# Altium schematic symbol library schematic_library.SchLib: 199 symbols (part 1 of 2)
Pins are listed as number, name and electrical type; pins without a type are passive.

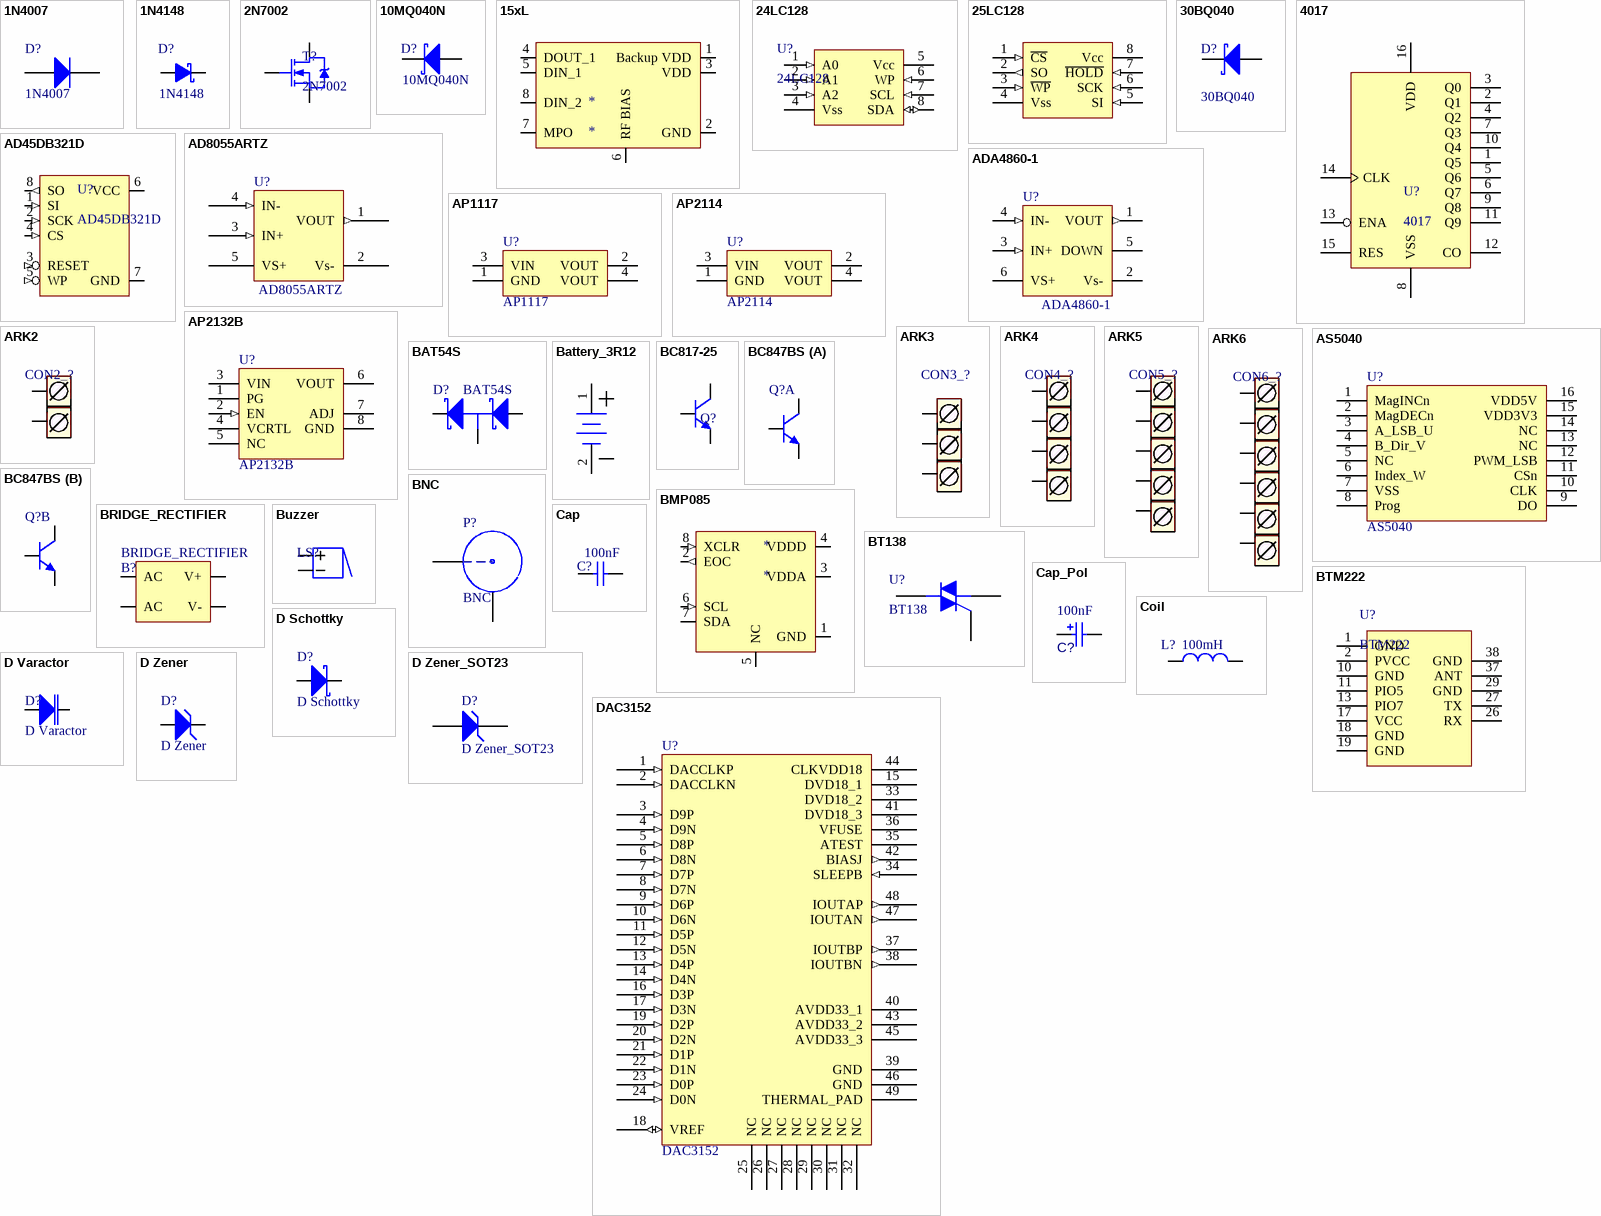
[diagram p0: symbols 1N4007 to DAC3152]

## 1N4007
designator D?
1.0A RECTIFIER
footprint Diode_THT (THT of 15mm spread diode)
pins: 1 A, 2 K

## 1N4148
designator D?
Small Signal Fast Switching Diodes
footprint minimelf
pins: 1 A, 2 K

## 2N7002
designator T?
N-Channel Enhancement Mode Field Effect Transistor
footprint SOT23
pins: 1 G, 2 S, 3 D

## 10MQ040N
designator D?
Schottky Rectifier
footprint SMA (Molded Diode, 2-Leads, Body 4,3x2,7mm, IPC Medium Density)
pins: 1 A, 2 K

## 15xL
designator *
pins: 1 Backup VDD, 2 GND, 3 VDD, 4 DOUT_1, 5 DIN_1, 6 RF BIAS, 7 MPO, 8 DIN_2

## 24LC128
designator U?
128K I  2  C™CMOS Serial EEPROM
footprint SOIC8
pins: 1 A0 (in), 2 A1 (in), 3 A2 (in), 4 Vss (power), 5 Vcc (power), 6 WP (in), 7 SCL (in), 8 SDA (io)

## 25LC128
designator U?  (value not drawn)
128K SPI Bus Serial EEPROM
footprint SOIC8
pins: 1 ~{CS} (in), 2 SO (out), 3 ~{WP} (in), 4 Vss (power), 5 SI (in), 6 SCK (in), 7 ~{HOLD} (in), 8 Vcc (power)

## 30BQ040
designator D?
Schottky Rectifier; Published: 8-Jun-2000; LatestRevisionDate: 17-Jul-2002; LatestRevisionNote: Re-released for DXP Platform.; DatasheetDocument: PD-2.439; PackageReference: SMC; Publisher: Altium Limited; Code_JEDEC: DO-214-AB; ComponentLink1Description: Manufacturer Link; ComponentLink1URL: http://www.irf.com/; ComponentLink2Description: Datasheet; ComponentLink2URL: http://www.irf.com/product-info/datasheets/data/30bq040.pdf
footprint SMC (DO-214-AB/SMC; 2 C-Bend Leads; Body 7.9 x 5.9 mm, inc. leads (LxW))
pins: 1 A, 2 K

## 4017
designator U?
5-stage Johnson counter
footprint DIP16
pins: 1 Q5, 2 Q1, 3 Q0, 4 Q2, 5 Q6, 6 Q7, 7 Q3, 8 VSS, 9 Q8, 10 Q4, 11 Q9, 12 CO, 13 ENA, 14 CLK, 15 RES, 16 VDD

## AD45DB321D
designator U?
footprint SOIC8S2
pins: 1 SI (in), 2 SCK (in), 3 RESET (in), 4 CS (in), 5 WP (in), 6 VCC (power), 7 GND (power), 8 SO (out)

## AD8055ARTZ
designator U?
Low Cost, 300MHz Voltage Feedback Amplifier
footprint SOT23-5_N (SOT23, 5-Leads, Body 2.9x1.6mm, Pitch 0.95mm, Lead Span 2.8mm, IPC Medium Density)
pins: 1 VOUT (out), 2 Vs- (power), 3 IN+ (in), 4 IN- (in), 5 VS+ (power)

## ADA4860-1
designator U?
The ADA4860-1 is a low cost, high speed, current feedback op  amp that provides excellent overall performance. The 800 MHz,  −3 dB bandwidth, and 790 V/μs slew rate make this amplifier  well suited for many high speed applications.; Created by: Piotr Błachnio
footprint SOT23-6 (6-Lead SOT-23)
pins: 1 VOUT (out), 2 Vs- (power), 3 IN+ (in), 4 IN- (in), 5 DOWN, 6 VS+ (power)

## AP1117
designator U?
AP1117 is a low dropout positive adjustable or fixed-mode regulator  with 1A output current capability.; Created by: Piotr Błachnio
footprint SOT223
pins: 1 GND (power), 2 VOUT (power), 3 VIN (power), 4 VOUT (power)

## AP2114
designator U?
1A; 1.2V, 1.5V, 1.8V, 2.5V  and 3.3V; LOW NOISE CMOS LDO REGULATOR WITH ENABLE
footprint SOT223
pins: 1 GND (power), 2 VOUT (power), 3 VIN (power), 4 VOUT (power)

## AP2132B
designator U?
AP2132B 1.2V; 1.5V; 1.8V; 2.5V; FIXED OR ADJUSTABLE 2A CMOS LDO REGULATOR
footprint PSOP8 (SOP8, PSOP8)
pins: 1 PG, 2 EN (in), 3 VIN (power), 4 VCRTL (power), 5 NC, 6 VOUT (power), 7 ADJ, 8 GND (power)

## ARK2
designator CON2_?  (value not drawn)
Złącze śrubowe 2 piny
footprint ARK2
pins: 1, 2

## ARK3
designator CON3_?  (value not drawn)
Złącze śrubowe 3 piny
footprint ARK3
pins: 1, 2, 3

## ARK4
designator CON4_?  (value not drawn)
Złącze śrubowe 4 piny
footprint ARK4
pins: 1, 2, 3, 4

## ARK5
designator CON5_?  (value not drawn)
Złącze śrubowe 5 pinów
footprint ARK5
pins: 1, 2, 3, 4, 5

## ARK6
designator CON6_?  (value not drawn)
Złącze śrubowe 6 pinów
footprint ARK6
pins: 1, 2, 3, 4, 5, 6

## AS5040
designator U?
10Bit 360° Programmable Magnetic Rotary Encoder
footprint SSOP-16
pins: 1 MagINCn, 2 MagDECn, 3 A_LSB_U, 4 B_Dir_V, 5 NC, 6 Index_W, 7 VSS, 8 Prog, 9 DO, 10 CLK, 11 CSn, 12 PWM_LSB, 13 NC, 14 NC, 15 VDD3V3, 16 VDD5V

## BAT54S
designator D?
Schottky Barrier Double Diode; Published: 17-Sep-2003; LatestRevisionDate: 12-Dec-2006; LatestRevisionNote: IPC-7351 Footprint Added.; DatasheetVersion: 4-Mar-2002; PackageVersion: May-1999; PackageReference: SOT23; Publisher: Altium Limited; PackageDescription: 3-Pin SOT-23 Package 0.95 mm Pitch, 2.3 mm Lead Span; ComponentLink1Description: Manufacturer Link; ComponentLink1URL: http://www.semiconductors.philips.com/; ComponentLink2Description: Datasheet; ComponentLink2URL: http://www.semiconductors.philips.com/acrobat/datasheets/BAT54_SERIES_4.pdf
footprint SOT23_N
pins: 1 A, 2 K, 3 C

## Battery_3R12
designator BAT?, comment 3R12  (value not drawn)
3R12 Battery 4,5V with 2x2 Header
footprint Battery_3R12 (4,5V Battery model 3R12)
footprint ARK2
pins: 1 +, 2 -

## BC817-25
designator Q?  (value not drawn)
NPN General-purpose Transistor; Published: 17-Sep-2003; LatestRevisionDate: 12-Dec-2006; LatestRevisionNote: IPC-7351 Footprint Added.; DatasheetVersion: Jun-1999; PackageVersion: May-1999; PackageReference: SOT23; Publisher: Altium Limited; PackageDescription: 3-Pin SOT-23 Package 0.95 mm Pitch, 2.3 mm Lead Span; ComponentLink1Description: Manufacturer Link; ComponentLink1URL: http://www.semiconductors.philips.com/; ComponentLink2Description: Datasheet; ComponentLink2URL: http://www.semiconductors.philips.com/acrobat/datasheets/BC817_BC817W_BC337_5.pdf
footprint SOT23_N
pins: 1 B, 2 E, 3 C

## BC847BS
designator Q?  (value not drawn)
NPN General-purpose Transistor; Created by: Piotr Błachnio
footprint SOT-363
part A pins: 1 E, 2 B, 6 C
part B pins: 3 C, 4 E, 5 B

## BMP085
designator *
pins: 1 GND, 2 EOC (out), 3 VDDA, 4 VDDD, 5 NC, 6 SCL (in), 7 SDA (oc), 8 XCLR (in)

## BNC
designator P?
BNC 50 ohm, right angle; Created by: Piotr Błachnio
footprint BNC (10GHz, 50ohm, right angle bnc connector)
pins: 1, 2

## BRIDGE_RECTIFIER
designator B?
SINGLE-PHASE SILICON BRIDGE RECTIFIER
footprint DB-1 (SINGLE-PHASE SILICON BRIDGE RECTIFIER)
footprint MBS (MBS2 thru MBS10 Glass Passivated Bridge Rectifiers)
pins: 1 AC, 2 AC, 3 V+, 4 V-

## BT138
designator U?
BT138, 600V Triac
footprint TO-220AB (TO, Thru-Hole, Vertical, Heatsink Mounted; 3 In-Line Leads; Pitch 2.54 mm)
pins: 1 M1, 2 M2, 3 G

## BTM222
designator U?
Class1 BC04-ext Module
footprint BTM222 (Class1 BC04-ext Module)
pins: 1 GND (power), 2 PVCC (power), 10 GND (power), 11 PIO5 (power), 13 PIO7 (power), 17 VCC (power), 18 GND (power), 19 GND (power), 26 RX (power), 27 TX (power), 29 GND (power), 37 ANT (power), 38 GND (power)

## Buzzer
designator LS?  (value not drawn)
Magnetic Transducer Buzzer; Published: 24-Mar-1999; LatestRevisionDate: 17-Dec-2003; LatestRevisionNote: Schematic revised, PCB Footprint replaced.; DatasheetVersion: 17-Dec-2003; PackageReference: ABSM-1574; Publisher: Altium Limited; ComponentLink1Description: Manufacturer Link; ComponentLink1URL: http://www.megastar.com/linecard/buzzmode/index.php
footprint HCM1212X (Buzzer)
pins: 1, 2

## Cap
designator C?  value 100nF
Ceramic capacitor; Unit Price1: *; Unit Price2: *
footprint 0805_CAP
footprint CAP_THT_5.0 (Kondensator ceramiczny z rozstawem wyprowadzeń 5mm)
footprint 0603_CAP
footprint 1210_CAP
footprint 0402_CAP (CAP 0402)
footprint CAP_THT_2.5 (Kondensator ceramiczny z rozstawem wyprowadzeń 2.5mm)
pins: 1, 2

## Cap_Pol
designator C?, comment 100nF
Polar capacitor; Value: 100nF
footprint Con_SMD_4x5 (SMD electrolytic capacitor)
footprint Con_SMD_5x5.5 (SMD electrolytic capacitor)
footprint Con_SMD_6.3x5.5 (SMD electrolytical capacitor)
footprint Con_SMD_8x10_5 (Base 8,2mm height 10mm, 220uF, 35V AD6)
footprint Cap_THT_5x11
footprint Cap_THT_6x11
footprint Cap_THT_10x20
footprint B_CAP
footprint Cap_THT_5x7x2_5 (Cap_THT_5x11)
footprint CAPAE3333X55M (Aluminum Electrolytic Capacitor, Body 3,30x3,30x5,50mm)
footprint CAP_POL_3216-18 (Tantalum capacitor 3216 Case-A)
footprint SMA_tantal (Solid Tantalum Surface Mount Capacitors)
footprint SMB_tantal (Solid Tantalum Surface Mount Capacitors)
footprint SMC_tantal (Solid Tantalum Surface Mount Capacitors)
footprint SMD_tantal (Solid Tantalum Surface Mount Capacitors)
pins: 1, 2
2 alternate drawings of the same symbol

## Coil
designator L?, comment 100mH
Coil for ADC filtering; Value: 100mH
footprint THT_AXIAL (General THT AXIAL element)
footprint 0603_IND
footprint 0805_IND ((2012 metric))
footprint 1206_IND (3216(metric))
pins: 1, 2

## D Schottky
designator D?
Schottky Diode; Published: 8-Jun-2000; LatestRevisionDate: 17-Jul-2002; LatestRevisionNote: Re-released for DXP Platform.; PackageReference: SMB; Publisher: Altium Limited; PackageDescription: DO-214-AA/SMB; 2 C-Bend Leads; Body 5.3 x 3.6 mm, inc. leads (LxW); Code_JEDEC: DO-214-AA
footprint SMB (DO-214-AA/SMB; 2 C-Bend Leads; Body 5.3 x 3.6 mm, inc. leads (LxW))
signal-integrity model D Schottky
footprint SMA (Molded Diode, 2-Leads, Body 4,3x2,7mm, IPC Medium Density)
footprint SMC2 (SMC;)
footprint SMB 2 (SMB)
pins: 1 A, 2 K

## D Varactor
designator D?
Variable Capacitance Diode; Note: Pin 2 is not connected and not drawn.; Published: 8-Jun-2000; LatestRevisionDate: 29-May-2009; LatestRevisionNote: IPC-7351 Footprint Added.; DatasheetVersion: Jan-1998; PackageVersion: 1996; PackageReference: SOT23A; Publisher: Altium Limited; PackageDescription: 3-Pin SOT-23 Package 0.95 mm Pitch, 2.3 mm Lead Span - Reverse Pinning; ComponentLink1Description: Manufacturer Link; ComponentLink1URL: http://www.zetex.com/
footprint SOT23_N (SOT23, 3-Leads, Body 2.9x1.3mm, Pitch 0.95mm, Lead Span 2.3mm - Reverse Pinning, IPC Medium Density)
signal-integrity model D Varactor
pins: 1 K, 3 A

## D Zener
designator D?
Zener Diode; Published: 8-Jun-2000; LatestRevisionDate: 17-Jul-2002; LatestRevisionNote: Re-released for DXP Platform.; PackageReference: DIODE-0.7; Publisher: Altium Limited; PackageDescription: Diode, Thru-Hole; 2 Leads; 0.7 in Pin Spacing
footprint SMB (DO-214-AA/SMB; 2 C-Bend Leads; Body 5.3 x 3.6 mm, inc. leads (LxW))
footprint Zener_THT (THT of 15mm spread zener diode)
footprint SMB_DIODE (SMB)
pins: 1 A, 2 K

## D Zener_SOT23
designator D?
Zener Diode, SOT23; Published: 8-Jun-2000; LatestRevisionDate: 17-Jul-2002; LatestRevisionNote: Re-released for DXP Platform.; PackageReference: DIODE-0.7; Publisher: Altium Limited; PackageDescription: Diode, Thru-Hole; 2 Leads; 0.7 in Pin Spacing
signal-integrity model D Zener
footprint SOT23
pins: 1 A, 3 K

## DAC3152
designator U?
Dual-Channel, 10 Bit, 500-MSPS Digital to Analog Converter DAC
footprint VQFN48
pins: 1 DACCLKP (in), 2 DACCLKN (in), 3 D9P (in), 4 D9N (in), 5 D8P (in), 6 D8N (in), 7 D7P (in), 8 D7N (in), 9 D6P (in), 10 D6N (in), 11 D5P (in), 12 D5N (in), 13 D4P (in), 14 D4N (in), 15 DVD18_1 (power), 16 D3P (in), 17 D3N (in), 18 VREF (io), 19 D2P (in), 20 D2N (in), 21 D1P (in), 22 D1N (in), 23 D0P (in), 24 D0N (in), 25 NC, 26 NC, 27 NC, 28 NC, 29 NC, 30 NC, 31 NC, 32 NC, 33 DVD18_2 (power), 34 SLEEPB (in), 35 ATEST, 36 VFUSE, 37 IOUTBP (out), 38 IOUTBN (out), 39 GND (power), 40 AVDD33_1 (power), 41 DVD18_3 (power), 42 BIASJ (out), 43 AVDD33_2 (power), 44 CLKVDD18 (power), 45 AVDD33_3 (power), 46 GND (power), 47 IOUTAN (out), 48 IOUTAP (out), 49 THERMAL_PAD (power)

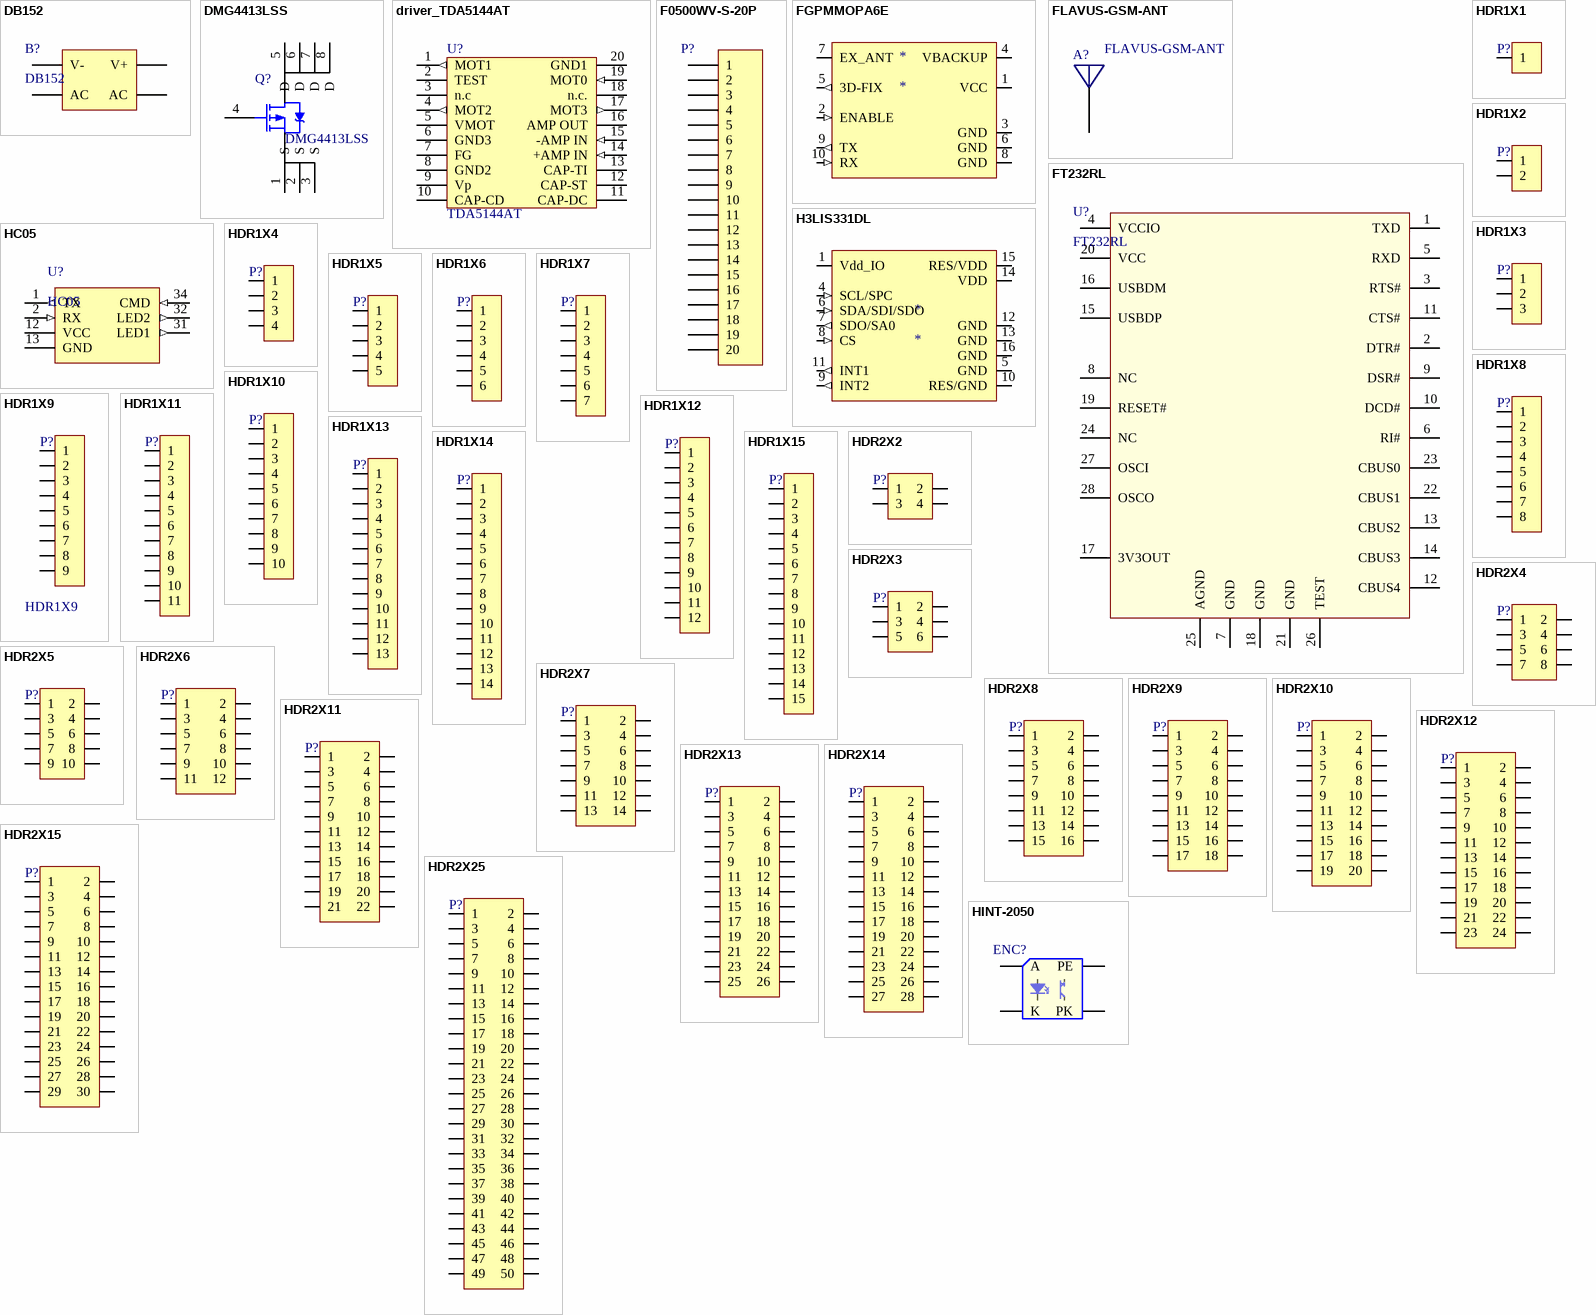
[diagram p1: symbols DB152 to HINT-2050]

## DB152
designator B?
SINGLE-PHASE SILICON BRIDGE RECTIFIER
footprint DB-1 (SINGLE-PHASE SILICON BRIDGE RECTIFIER)
pins: 1 AC, 2 AC, 3 V+, 4 V-

## DMG4413LSS
designator Q?
30V P-CHANNEL ENHANCEMENT MODE MOSFET
footprint SO-8
pins: 1 S, 2 S, 3 S, 4 G, 5 D, 6 D, 7 D, 8 D

## driver_TDA5144AT
designator U?, comment TDA5144AT
driver TDA5144AT; ComponentLink1Description: TDA5144_data_scheet; ComponentLink1URL: .\data_sheets\TDA5144_data_sheet.pdf; ComponentLink2Description: SO-20; ComponentLink2URL: .\data_sheets\SOT163-1_data_sheet.pdf
footprint SO20 (Plastic small outline package; 20 leads; large body (SOT163-1; SO20L).)
pins: 1 MOT1 (out) "driver output 1", 2 TEST "test input/output", 3 n.c "not connected", 4 MOT2 (out) "driver output 2", 5 VMOT (power) "input voltage for the output driver stages", 6 GND3 (power) "ground supply; must be connected", 7 FG (oc) "frequency generator: output of the rotation speed (open collector digital output)", 8 GND2 (power) "ground supply return for control circuits", 9 Vp (power) "supply voltage", 10 CAP-CD "external capacitor connection for adaptive communication delay timing", 11 CAP-DC "external capacitor connection for adaptive communication delay timing copy", 12 CAP-ST "external capacitor connection for start-up oscillator", 13 CAP-TI "external capacitor connection for timing", 14 +AMP IN (in) "non-inverting input of the transconductance amplifier", 15 -AMP IN (in) "inverting input of the transconductance amplifier", 16 AMP OUT (oc) "transconductance amplifier output (open collector)", 17 MOT3 (out) "driver output 3", 18 n.c. "not connected", 19 MOT0 (in) "input from the star point of the motor coils", 20 GND1 (power) "ground (0 V) motor supply return for output stages"

## F0500WV-S-20P
designator P?  (value not drawn)
footprint F0500WV-S-20P (Złącze FFC 20 pin)
pins: 1, 2, 3, 4, 5, 6, 7, 8, 9, 10, 11, 12, 13, 14, 15, 16, 17, 18, 19, 20

## FGPMMOPA6E
designator *
footprint GPS_FGPMMOPA6E (GPS MediaTek FGPMMOPA6E (Maritex))
pins: 1 VCC, 2 ENABLE (in), 3 GND, 4 VBACKUP, 5 3D-FIX (out), 6 GND, 7 EX_ANT, 8 GND, 9 TX (out), 10 RX (in)

## FLAVUS-GSM-ANT
designator A?
PCB GSM Anntena; DESC: Antena wewnętrzna GSM/UMTS 824MHz-960MHz / 1710MHz -2170MHz; wymiary 27.3 x 9.6 x 4.85 [mm]; ORDER_CODE: GSM-FLAVUS; ORDER_SOURCE: MARITEX; PACKAGE: 27.3 x 9.6 x 4.85 [mm]
footprint FLAVUS-GSM
pins: 1 0

## FT232RL
designator U?
9.62500000000
footprint SSOP-28 (SOP, 28-Leads, Body 10,5x5,6mm (max), Pitch 0,65mm)
pins: 1 TXD, 2 DTR#, 3 RTS#, 4 VCCIO, 5 RXD, 6 RI#, 7 GND, 8 NC, 9 DSR#, 10 DCD#, 11 CTS#, 12 CBUS4, 13 CBUS2, 14 CBUS3, 15 USBDP, 16 USBDM, 17 3V3OUT, 18 GND, 19 RESET#, 20 VCC, 21 GND, 22 CBUS1, 23 CBUS0, 24 NC, 25 AGND, 26 TEST, 27 OSCI, 28 OSCO

## H3LIS331DL
designator *
footprint TFLGA16L
pins: 1 Vdd_IO, 4 SCL/SPC (in), 5 GND, 6 SDA/SDI/SDO (in), 7 SDO/SA0 (out), 8 CS (in), 9 INT2 (out), 10 RES/GND, 11 INT1 (out), 12 GND, 13 GND, 14 VDD, 15 RES/VDD, 16 GND

## HC05
designator U?
Bluetooth to Serial Port Module
footprint HC05 (Bluetooth to Serial Port Module)
pins: 1 TX (out), 2 RX (in), 12 VCC (power), 13 GND (power), 31 LED1 (out), 32 LED2 (out), 34 CMD (in)

## HDR1X1
designator P?  (value not drawn)
Header, 1-Pin
footprint HDR1X1 (Header, 1-Pin)
pins: 1

## HDR1X2
designator P?  (value not drawn)
Header, 2-Pin; LatestRevisionDate: 17-Jul-2002; LatestRevisionNote: Re-released for DXP Platform.; Publisher: Altium Limited
footprint HDR1X2 (Connector; Header; 2 Position)
pins: 1, 2

## HDR1X3
designator P?  (value not drawn)
Header, 3-Pin; LatestRevisionDate: 17-Jul-2002; LatestRevisionNote: Re-released for DXP Platform.; Publisher: Altium Limited
footprint HDR1X3 (Connector; Header; 3 Position)
pins: 1, 2, 3

## HDR1X4
designator P?  (value not drawn)
Header, 4-Pin; LatestRevisionDate: 17-Jul-2002; LatestRevisionNote: Re-released for DXP Platform.; Publisher: Altium Limited
footprint HDR1X4 (Connector; Header; 4 Position)
pins: 1, 2, 3, 4

## HDR1X5
designator P?  (value not drawn)
Header, 5-Pin; LatestRevisionDate: 17-Jul-2002; LatestRevisionNote: Re-released for DXP Platform.; Publisher: Altium Limited
footprint HDR1X5 (Connector; Header; 5 Position)
pins: 1, 2, 3, 4, 5

## HDR1X6
designator P?  (value not drawn)
Header, 6-Pin; LatestRevisionDate: 17-Jul-2002; LatestRevisionNote: Re-released for DXP Platform.; Publisher: Altium Limited
footprint HDR1X6 (Connector; Header; 6 Position)
pins: 1, 2, 3, 4, 5, 6

## HDR1X7
designator P?  (value not drawn)
Header, 7-Pin; LatestRevisionDate: 17-Jul-2002; LatestRevisionNote: Re-released for DXP Platform.; Publisher: Altium Limited
footprint HDR1X7 (Connector; Header; 7 Position)
pins: 1, 2, 3, 4, 5, 6, 7

## HDR1X8
designator P?  (value not drawn)
Header, 8-Pin; LatestRevisionDate: 17-Jul-2002; LatestRevisionNote: Re-released for DXP Platform.; Publisher: Altium Limited
footprint HDR1X8 (Connector; Header; 8 Position)
pins: 1, 2, 3, 4, 5, 6, 7, 8

## HDR1X9
designator P?
Header, 9-Pin; LatestRevisionDate: 17-Jul-2002; LatestRevisionNote: Re-released for DXP Platform.; Publisher: Altium Limited
footprint HDR1X9 (Connector; Header; 9 Position)
pins: 1, 2, 3, 4, 5, 6, 7, 8, 9

## HDR1X10
designator P?  (value not drawn)
Header, 10-Pin; LatestRevisionDate: 17-Jul-2002; LatestRevisionNote: Re-released for DXP Platform.; Publisher: Altium Limited
footprint HDR1X10 (Connector; Header; 10 Position)
pins: 1, 2, 3, 4, 5, 6, 7, 8, 9, 10

## HDR1X11
designator P?  (value not drawn)
Header, 11-Pin; LatestRevisionDate: 17-Jul-2002; LatestRevisionNote: Re-released for DXP Platform.; Publisher: Altium Limited
footprint HDR1X11 (Connector; Header; 11 Position)
pins: 1, 2, 3, 4, 5, 6, 7, 8, 9, 10, 11

## HDR1X12
designator P?  (value not drawn)
Header, 12-Pin
footprint HDR1X12 (Connector; Header; 12 Position)
pins: 1, 2, 3, 4, 5, 6, 7, 8, 9, 10, 11, 12

## HDR1X13
designator P?  (value not drawn)
Header, 13-Pin; LatestRevisionDate: 17-Jul-2002; LatestRevisionNote: Re-released for DXP Platform.; Publisher: Altium Limited
footprint HDR1X13 (Connector; Header; 13 Position)
pins: 1, 2, 3, 4, 5, 6, 7, 8, 9, 10, 11, 12, 13

## HDR1X14
designator P?  (value not drawn)
Header, 14-Pin; LatestRevisionDate: 17-Jul-2002; LatestRevisionNote: Re-released for DXP Platform.; Publisher: Altium Limited
footprint HDR1X14 (Connector; Header; 14 Position)
pins: 1, 2, 3, 4, 5, 6, 7, 8, 9, 10, 11, 12, 13, 14

## HDR1X15
designator P?  (value not drawn)
Header, 15-Pin; LatestRevisionDate: 17-Jul-2002; LatestRevisionNote: Re-released for DXP Platform.; Publisher: Altium Limited
footprint HDR1X15 (Connector; Header; 15 Position)
pins: 1, 2, 3, 4, 5, 6, 7, 8, 9, 10, 11, 12, 13, 14, 15

## HDR2X2
designator P?  (value not drawn)
Header, 2-Pin, Dual row
footprint HDR2X2 (Connector; Header; 2X2 Position)
footprint HDR2X2_SMD
pins: 1, 2, 3, 4

## HDR2X3
designator P?  (value not drawn)
Header, 3-Pin, Dual row; LatestRevisionDate: 17-Jul-2002; LatestRevisionNote: Re-released for DXP Platform.; Publisher: Altium Limited
footprint HDR2X3 (Connector; Header; 3x2 Position)
footprint HDR2X3_SMD
pins: 1, 2, 3, 4, 5, 6

## HDR2X4
designator P?  (value not drawn)
Header, 4-Pin, Dual Row
footprint HDR2X4 (Connector; Header; 2X4 Position)
footprint HDR2X4_SMD
pins: 1, 2, 3, 4, 5, 6, 7, 8

## HDR2X5
designator P?  (value not drawn)
Header, 5-Pin, Dual row; LatestRevisionDate: 17-Jul-2002; LatestRevisionNote: Re-released for DXP Platform.; Publisher: Altium Limited
footprint HDR2X5 (Connector; Header; 5x2 Position)
footprint HDR2X5_SMD
pins: 1, 2, 3, 4, 5, 6, 7, 8, 9, 10

## HDR2X6
designator P?  (value not drawn)
Header, 6-Pin, Dual row; LatestRevisionDate: 17-Jul-2002; LatestRevisionNote: Re-released for DXP Platform.; Publisher: Altium Limited
footprint HDR2X6 (Connector; Header; 6x2 Position)
footprint HDR2X6_SMD
pins: 1, 2, 3, 4, 5, 6, 7, 8, 9, 10, 11, 12

## HDR2X7
designator P?  (value not drawn)
Header, 7-Pin, Dual row; LatestRevisionDate: 17-Jul-2002; LatestRevisionNote: Re-released for DXP Platform.; Publisher: Altium Limited
footprint HDR2X7 (Connector; Header; 7x2 Position)
footprint HDR2X7_SMD
pins: 1, 2, 3, 4, 5, 6, 7, 8, 9, 10, 11, 12, 13, 14

## HDR2X8
designator P?  (value not drawn)
Header, 8-Pin, Dual row; LatestRevisionDate: 17-Jul-2002; LatestRevisionNote: Re-released for DXP Platform.; Publisher: Altium Limited
footprint HDR2X8 (Connector; Header; 8x2 Position)
footprint HDR2X8_SMD
pins: 1, 2, 3, 4, 5, 6, 7, 8, 9, 10, 11, 12, 13, 14, 15, 16

## HDR2X9
designator P?  (value not drawn)
Header, 9-Pin, Dual row; LatestRevisionDate: 17-Jul-2002; LatestRevisionNote: Re-released for DXP Platform.; Publisher: Altium Limited
footprint HDR2X9 (Connector; Header; 9x2 Position)
footprint HDR2X9_SMD
pins: 1, 2, 3, 4, 5, 6, 7, 8, 9, 10, 11, 12, 13, 14, 15, 16, 17, 18

## HDR2X10
designator P?  (value not drawn)
Header, 10-Pin, Dual row; LatestRevisionDate: 17-Jul-2002; LatestRevisionNote: Re-released for DXP Platform.; Publisher: Altium Limited
footprint HDR2X10 (Connector; Header; 10x2 Position)
footprint HDR2X10_SMD
pins: 1, 2, 3, 4, 5, 6, 7, 8, 9, 10, 11, 12, 13, 14, 15, 16, 17, 18, 19, 20

## HDR2X11
designator P?  (value not drawn)
Header, 11-Pin, Dual row; LatestRevisionDate: 17-Jul-2002; LatestRevisionNote: Re-released for DXP Platform.; Publisher: Altium Limited
footprint HDR2X11 (Connector; Header; 11x2 Position)
footprint HDR2X11_SMD
pins: 1, 2, 3, 4, 5, 6, 7, 8, 9, 10, 11, 12, 13, 14, 15, 16, 17, 18, 19, 20, 21, 22

## HDR2X12
designator P?  (value not drawn)
Header, 12-Pin, Dual row; LatestRevisionDate: 17-Jul-2002; LatestRevisionNote: Re-released for DXP Platform.; Publisher: Altium Limited
footprint HDR2X12 (Connector; Header; 12x2 Position)
footprint HDR2X12_SMD
pins: 1, 2, 3, 4, 5, 6, 7, 8, 9, 10, 11, 12, 13, 14, 15, 16, 17, 18, 19, 20, 21, 22, 23, 24

## HDR2X13
designator P?  (value not drawn)
Header, 13-Pin, Dual row; LatestRevisionDate: 17-Jul-2002; LatestRevisionNote: Re-released for DXP Platform.; Publisher: Altium Limited
footprint HDR2X13 (Connector; Header; 13x2 Position)
footprint HDR2X13_SMD
pins: 1, 2, 3, 4, 5, 6, 7, 8, 9, 10, 11, 12, 13, 14, 15, 16, 17, 18, 19, 20, 21, 22, 23, 24, 25, 26

## HDR2X14
designator P?  (value not drawn)
Header, 14-Pin, Dual row; LatestRevisionDate: 17-Jul-2002; LatestRevisionNote: Re-released for DXP Platform.; Publisher: Altium Limited
footprint HDR2X14 (Connector; Header; 14x2 Position)
footprint HDR2X14_SMD
pins: 1, 2, 3, 4, 5, 6, 7, 8, 9, 10, 11, 12, 13, 14, 15, 16, 17, 18, 19, 20, 21, 22, 23, 24, 25, 26, 27, 28

## HDR2X15
designator P?  (value not drawn)
Header, 15-Pin, Dual row; LatestRevisionDate: 17-Jul-2002; LatestRevisionNote: Re-released for DXP Platform.; Publisher: Altium Limited
footprint HDR2X15 (Connector; Header; 15x2 Position)
footprint HDR2X15_SMD
pins: 1, 2, 3, 4, 5, 6, 7, 8, 9, 10, 11, 12, 13, 14, 15, 16, 17, 18, 19, 20, 21, 22, 23, 24, 25, 26, 27, 28, 29, 30

## HDR2X25
designator P?  (value not drawn)
Header, 25-Pin, Dual row; LatestRevisionDate: 17-Jul-2002; LatestRevisionNote: Re-released for DXP Platform.; Publisher: Altium Limited
footprint HDR2X25_SMD
footprint HDR2X25 (Connector; Header; 25x2 Position)
pins: 1, 2, 3, 4, 5, 6, 7, 8, 9, 10, 11, 12, 13, 14, 15, 16, 17, 18, 19, 20, 21, 22, 23, 24, 25, 26, 27, 28, 29, 30, 31, 32, 33, 34, 35, 36, 37, 38, 39, 40, 41, 42, 43, 44, 45, 46, 47, 48, 49, 50

## HINT-2050
designator ENC?  (value not drawn)
Digital encoder
footprint HINT-2050
footprint HINT-2050 - half size
pins: 1 K "Cathode", 2 A "Anode", 3 PK "Collector", 4 PE "Emiter"

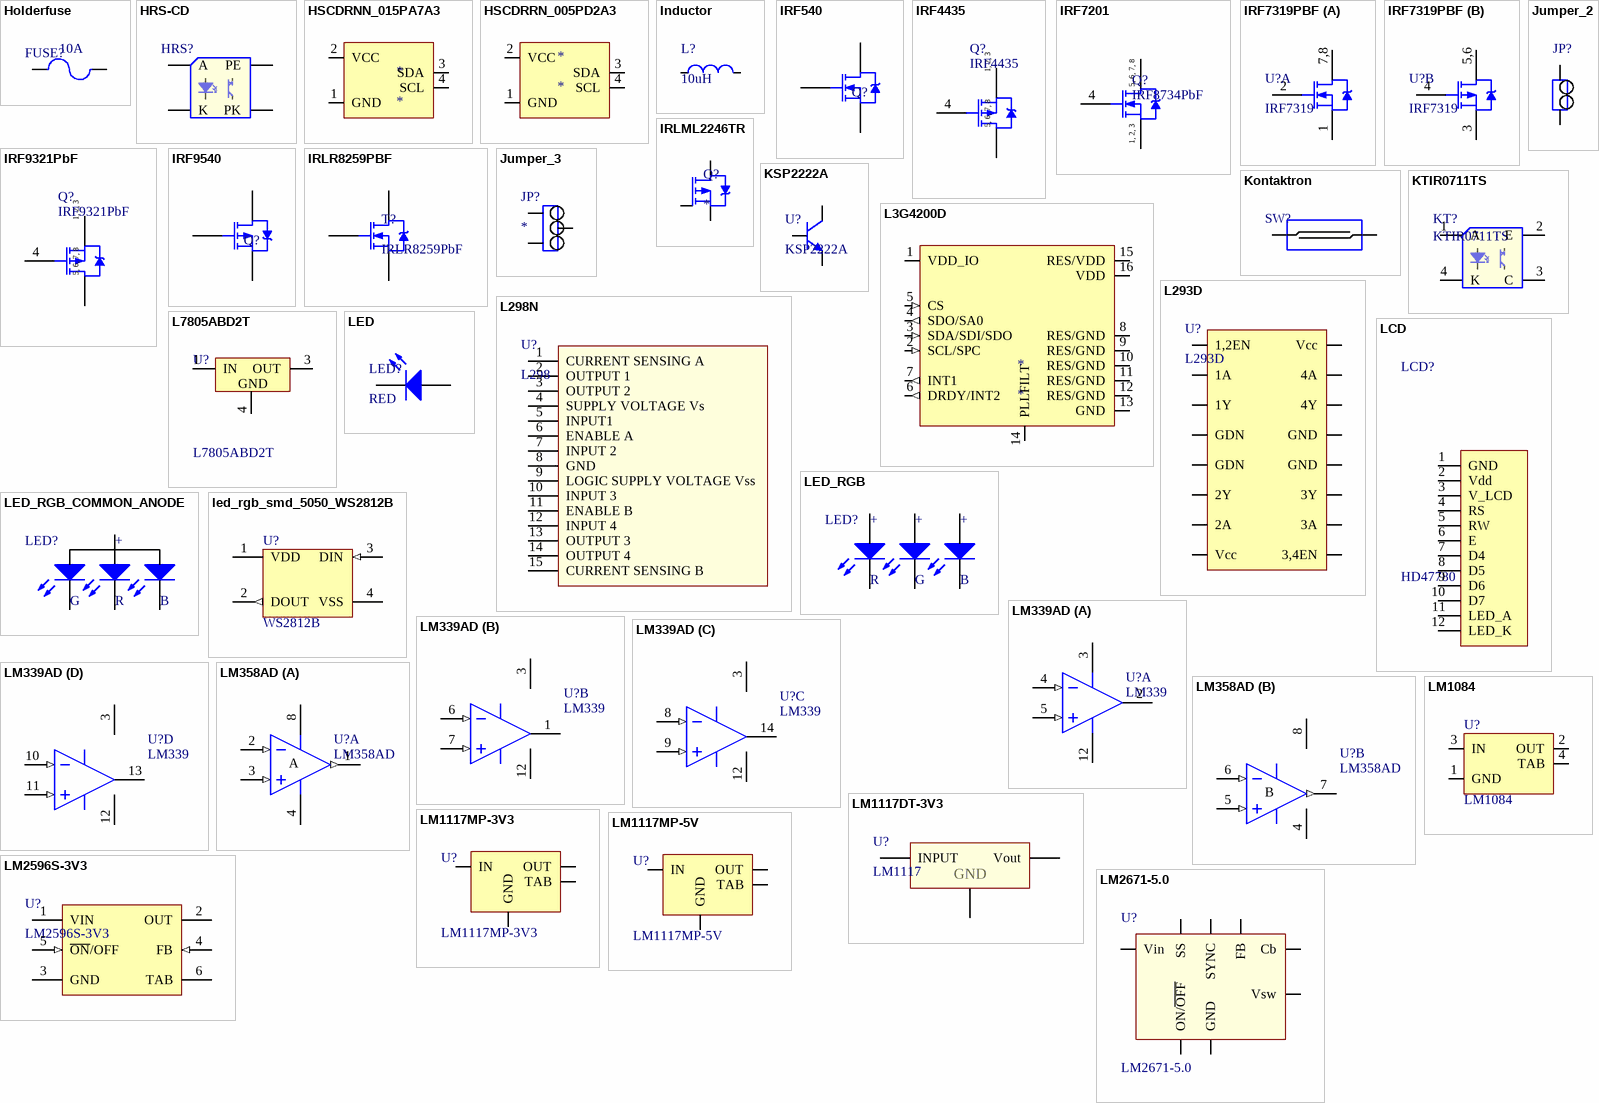
[diagram p2: symbols Holderfuse to LM2671-5.0]

## Holderfuse
designator FUSE?, comment 10A
Fuseholder Open Design, 5 x 20 mm; Value: 10A
footprint Holderfuse (8x20mm fuse holder)
pins: 1, 2

## HRS-CD
designator HRS?  (value not drawn)
HRS CD Encoder
footprint HRS CD (Sensor for encoder)
pins: 1 A "Anode", 2 PE "Emiter", 3 PK "Collector", 4 K "Cathode"

## HSCDRNN_015PA7A3
designator *
Honeywell pressure sensor
footprint HSC_DIP_RN (Honeywell {resure Sensor with dual radial barbed ports, same side)
pins: 1 GND, 2 VCC, 3 SDA, 4 SCL

## HSCDRRN_005PD2A3
designator *
Honeywell Pressure Sensor
footprint HSC_DIP_RR (Honeywell {resure Sensor with dual radial barbed ports, same side)
pins: 1 GND, 2 VCC, 3 SDA, 4 SCL

## Inductor
designator L?, comment 10uH
Code_IEC: 1005; Published: 8-Jun-2000; LatestRevisionDate: 29-May-2009; LatestRevisionNote: IPC-7351 Footprint Added.; PackageReference: 0402-A; Publisher: Altium Limited; PackageDescription: Chip Inductor; Code_JEITA: 0402; Value: 10uH
footprint DO5040
footprint 0603_IND
footprint 0805_IND ((2012 metric))
footprint 1206_IND (3216(metric))
footprint DE_0703
footprint 1040 SMD Power Inductor WE-LHMI (Molded Inductor, 2-Leads, Body 10,00x10,00mm, IPC Medium Density)
footprint SRR6028 (SRR6028 Series - Shielded SMD Power Inductors)
footprint SRR1260 (SRR1260 Series - Shielded SMD Power Inductors)
footprint XAL40xx (Shielded Power Inductors – XAL40xx)
pins: 1, 2

## IRF540
designator Q?
HEXFET N-Channel Power MOSFET; Note: Pin 2 is electrically connected to pin 4.; Published: 8-Jun-2000; LatestRevisionDate: 17-Jul-2002; LatestRevisionNote: Re-released for DXP Platform.; DatasheetVersion: PD-9.373H; PackageVersion: Feb-1997; PackageReference: TO-220AB; Publisher: Altium Limited; PackageDescription: TO, Thru-Hole, Vertical, Heatsink Mounted; 3 In-Line Leads; Pitch 2.54 mm; ComponentLink1Description: Manufacturer Link; ComponentLink1URL: http://www.irf.com/
footprint TO-220AB (TO, Thru-Hole, Vertical, Heatsink Mounted; 3 In-Line Leads; Pitch 2.54 mm)
pins: 1 G, 2 D, 3 S

## IRF4435
designator Q?
HEXFET Power MOSFET; Published: 17-Sep-2003; LatestRevisionDate: 13-Apr-2006; LatestRevisionNote: IPC-7351 Footprint Added.; DatasheetVersion: 12-Jun-2001; PackageVersion: Feb-2001; PackageReference: SO-8; Publisher: Altium Limited; PackageDescription: 8-Pin Plastic Small Outline Integrated Circuit 1.27 mm Pitch; Code_JEDEC: MS-012-AA; Code_IPC: SOIC127P600-8; ComponentLink1Description: Manufacturer Link; ComponentLink1URL: http://www.irf.com/; ComponentLink2Description: Datasheet; ComponentLink2URL: http://www.irf.com/product-info/datasheets/data/IRF4435.pdf
footprint SO-8_N
pins: 1 S, 2 S, 3 S, 4 G, 5 D, 6 D, 7 D, 8 D
text: 1, 2, 3; 5, 6, 7, 8

## IRF7201
designator Q?, comment IRF8734PbF
HEXFET Power MOSFET; Published: 8-Jun-2000; LatestRevisionDate: 13-Apr-2006; LatestRevisionNote: IPC-7351 Footprint Added.; DatasheetVersion: Sep-1998; PackageVersion: Feb-2001; PackageReference: SO-8; Publisher: Altium Limited; PackageDescription: 8-Pin Plastic Small Outline Integrated Circuit 1.27 mm Pitch; Code_JEDEC: MS-012-AA; Code_IPC: SOIC127P600-8; ComponentLink1Description: Manufacturer Link; ComponentLink1URL: http://www.irf.com/; ComponentLink2Description: Datasheet; ComponentLink2URL: http://www.irf.com/product-info/datasheets/data/irf7201.pdf
footprint SO-8_N
pins: 1 S, 2 S, 3 S, 4 G, 5 D, 6 D, 7 D, 8 D
text: 5, 6, 7, 8; 1, 2, 3

## IRF7319PBF
designator U?, comment IRF7319
Dual N and P Channel MOSFET
footprint SO-8_N
part A pins: 1 S, 2 G, 7, 8
part B pins: 3 S, 4 G, 5 D, 6 D
part A text: 7,8
part B text: 5,6

## IRF9321PbF
designator Q?
HEXFET Power MOSFET; Published: 17-Sep-2003; LatestRevisionDate: 13-Apr-2006; LatestRevisionNote: IPC-7351 Footprint Added.; DatasheetVersion: 12-Jun-2001; PackageVersion: Feb-2001; PackageReference: SO-8; Publisher: Altium Limited; PackageDescription: 8-Pin Plastic Small Outline Integrated Circuit 1.27 mm Pitch; Code_JEDEC: MS-012-AA; Code_IPC: SOIC127P600-8; ComponentLink1Description: Manufacturer Link; ComponentLink1URL: http://www.irf.com/; ComponentLink2Description: Datasheet; ComponentLink2URL: http://www.irf.com/product-info/datasheets/data/IRF4435.pdf
footprint SO-8_N
pins: 1 S, 2 S, 3 S, 4 G, 5 D, 6 D, 7 D, 8 D
text: 1, 2, 3; 5, 6, 7, 8

## IRF9540
designator Q?
HEXFET P-Channel Power MOSFET; Note: Pin 2 is electrically connected to pin 4.; Published: 8-Jun-2000; LatestRevisionDate: 17-Jul-2002; LatestRevisionNote: Re-released for DXP Platform.; DatasheetVersion: PD-9.421C; PackageVersion: Feb-1997; PackageReference: TO-220AB; Publisher: Altium Limited; PackageDescription: TO, Thru-Hole, Vertical, Heatsink Mounted; 3 In-Line Leads; Pitch 2.54 mm; ComponentLink1Description: Manufacturer Link; ComponentLink1URL: http://www.irf.com/; ComponentLink2Description: Datasheet; ComponentLink2URL: http://www.irf.com/product-info/datasheets/data/irf9540.pdf
footprint TO-220AB (TO, Thru-Hole, Vertical, Heatsink Mounted; 3 In-Line Leads; Pitch 2.54 mm)
pins: 1 G, 2 D, 3 S

## IRLML2246TR
designator Q?
footprint SOT23
pins: 1 G, 2 S, 3 D

## IRLR8259PBF
designator T?, comment IRLR8259PbF
HEXFET  Power MOSFET
footprint TO252 (D-PAK, 3-Pads, Body 5,8x6,7mm (max), IPC Low Density)
pins: 1 G, 3 S, 4 D

## Jumper_2
designator JP?, comment Jumper  (value not drawn)
Jumper, 2-Pin
footprint HDR1X2 - JP (Connector; Header; 2 Position, Jumper)
footprint solder_jumper
pins: 1, 2

## Jumper_3
designator JP?
Jumper, 3-Pin
footprint HDR1X3 - JP (Connector; Header; 3 Position, Jumper)
pins: 1, 2, 3

## Kontaktron
designator SW?  (value not drawn)
Kontaktron, czujnik magnetyczny
pins: 1, 2

## KSP2222A
designator U?
NPN General Purpose Amplifier
footprint TO-92
pins: 1 E, 2 B, 3 C

## KTIR0711TS
designator KT?
footprint KTIR0711S
pins: 1 A "Anode", 2 E "Emiter", 3 C "Collector", 4 K "Cathode"

## L3G4200D
designator *
footprint LGA16_4x4x1
pins: 1 VDD_IO, 2 SCL/SPC (in), 3 SDA/SDI/SDO (in), 4 SDO/SA0 (out), 5 CS (in), 6 DRDY/INT2 (out), 7 INT1 (out), 8 RES/GND (power), 9 RES/GND (power), 10 RES/GND (power), 11 RES/GND (power), 12 RES/GND (power), 13 GND (power), 14 PLLFILT, 15 RES/VDD (power), 16 VDD (power)

## L293D
designator U?
Push-Pull Four Channel Driver With Diode
footprint DIP16
pins: 1 1,2EN, 2 1A, 3 1Y, 4 GDN, 5 GDN, 6 2Y, 7 2A, 8 Vcc, 9 3,4EN, 10 3A, 11 3Y, 12 GND, 13 GND, 14 4Y, 15 4A, 16 Vcc

## L298N
designator U?, comment L298
DUAL FULL-BRIDGE DRIVER
footprint Multiwatt15 (Miltiwatt15, 15-leads package)
pins: 1 CURRENT SENSING A, 2 OUTPUT 1, 3 OUTPUT 2, 4 SUPPLY VOLTAGE Vs, 5 INPUT1, 6 ENABLE A, 7 INPUT 2, 8 GND, 9 LOGIC SUPPLY VOLTAGE Vss, 10 INPUT 3, 11 ENABLE B, 12 INPUT 4, 13 OUTPUT 3, 14 OUTPUT 4, 15 CURRENT SENSING B

## L7805ABD2T
designator U?
Precision 1A Regulator; Published: 24-Aug-2001; LatestRevisionDate: 17-Jul-2002; LatestRevisionNote: Re-released for DXP Platform.; DatasheetVersion: Nov-1999; PackageReference: TO-263; Publisher: Altium Limited; PackageDescription: D2-PAK/TO-263-AB; 3 Leads (1 Cropped); Body 15.9 (inc. leads) x 10.4 mm (LxW max); ComponentLink1Description: Manufacturer Link; ComponentLink1URL: http://www.st.com/; ComponentLink2Description: Datasheet; ComponentLink2URL: http://www.st.com/stonline/products/literature/ds/2144/l7805ab.pdf
footprint TO-263 (D2-PAK/TO-263-AB; 3 Leads (1 Cropped); Body 15.9 (inc. leads) x 10.4 mm (LxW max))
footprint TO-220AB_stabilizer (TO, Thru-Hole, Vertical, Heatsink Mounted; 3 In-Line Leads; Pitch 2.54 mm)
pins: 1 IN (power), 3 OUT (power), 4 GND (power)

## LCD
designator LCD?, comment HD47780
Header for HD47780
footprint HDR1X12 (Connector; Header; 12 Position)
pins: 1 GND, 2 Vdd, 3 V_LCD, 4 RS, 5 RW, 6 E, 7 D4, 8 D5, 9 D6, 10 D7, 11 LED_A, 12 LED_K

## LED
designator LED?, comment RED
Light-emitting diode; COLOR: RED
footprint 0805_DIODE
footprint LED_THT_RED
footprint LED_THT_BLUE
footprint LED_THT_GREEN
footprint LED_THT_YELLOW
footprint LED_THT_3mm
footprint 0603_led_blue
footprint 0603_led_green
footprint 0603_led_orange
footprint 0603_led_red
footprint 0603_led_yellow
footprint 0805_led_blue
footprint 0805_led_green
footprint 0805_led_orange
footprint 0805_led_red
footprint 0805_led_yellow
footprint VSMB2020X01 (VSMB2000X01 series are infrared, 940 nm emitting diodes  in GaAlAs (DH))
pins: 1 A, 2 K

## LED_RGB
designator LED?  (value not drawn)
RGB Light-emitting diode; Created by: Piotr Błachnio
footprint LED_RGB_PLCC5050
pins: 1 B, 2 R, 3 G, 4 A, 5 A, 6 A
text: +

## LED_RGB_COMMON_ANODE
designator LED?  (value not drawn)
RGB Light-emitting diode; Created by: Piotr Błachnio
footprint LED_RGB_2.1x1.6_PACKAGE
pins: 1 B, 2 R, 3 G, 4 A
text: +

## led_rgb_smd_5050_WS2812B
designator U?, comment WS2812B
LED rgb in smd package 5050 and driver WS2812B; ComponentLink4Description: WS2812B_data_sheet; ComponentLink4URL: .\data_sheets\WS2812B_data_sheet.pdf
footprint led_rgb_smd_5050_WS2812B (LED rgb in smd package 5050 and driver WS2812B)
pins: 1 VDD (power), 2 DOUT (out) "Control data signal output", 3 DIN (in) "Control data signal input", 4 VSS (power) "Ground"

## LM339AD
designator U?, comment LM339
Quad Single-Supply Comparator; Published: 17-Jul-2002; LatestRevisionDate: 13-Apr-2006; LatestRevisionNote: IPC-7351 Footprint Added.; DatasheetVersion: 1988; PackageVersion: 1991; PackageReference: 751A-02; Publisher: Altium Limited; PackageDescription: 14-Pin Small Outline Integrated Circuit 1.27 mm Pitch; Code_IPC: SOIC127P600-14; ComponentLink1Description: Manufacturer Link; ComponentLink1URL: http://www.onsemi.com/site/products/taxonomy/0,4438,133,00.html
footprint SOIC14 (SOIC, 14-Leads, Body 8.6x3.9mm, Pitch 1.27mm, IPC Medium Density)
pins on every part: 3 V+ (power), 12 GND (power)
part A pins: 2 OUT (oc), 4 IN- (in), 5 IN+ (in)
part B pins: 1 OUT (oc), 6 IN- (in), 7 IN+ (in)
part C pins: 8 IN- (in), 9 IN+ (in), 14 OUT (oc)
part D pins: 10 IN- (in), 11 IN+ (in), 13 OUT (oc)

## LM358AD
designator U?
Low-Power Dual Operational Amplifier; Published: 24-Aug-2001; LatestRevisionDate: 13-Apr-2006; LatestRevisionNote: IPC-7351 Footprint Added.; DatasheetVersion: Jun-1998; PackageVersion: Dec-2002; PackageReference: SO8; Publisher: Altium Limited; PackageDescription: 8-Pin Small Outline Integrated Circuit 1.27 mm Pitch; Code_JEDEC: MS-012-AA; Code_IPC: SOIC127P600-8; ComponentLink1Description: Manufacturer Link; ComponentLink1URL: http://www.st.com/; ComponentLink2Description: Datasheet; ComponentLink2URL: http://www.st.com/stonline/products/literature/ds/2163/lm358.pdf
footprint DIP8
footprint SO-8_N
pins on every part: 4 V- (power), 8 V+ (power)
part A pins: 1 OUT (out), 2 IN- (in), 3 IN+ (in)
part B pins: 5 IN+ (in), 6 IN- (in), 7 OUT (out)
part A text: A
part B text: B

## LM1084
designator U?
LM1084 5A Low Dropout Positive Regulators; Created by: Piotr Błachnio
footprint TO-263 3 piny (D2-PAK/TO-263-AB; 3 Leads (1 Cropped); Body 15.9 (inc. leads) x 10.4 mm (LxW max))
pins: 1 GND (power), 2 OUT (power), 3 IN (power), 4 TAB (power)

## LM1117DT-3V3
designator U?, comment LM1117
LM1117, 3V3, 800mA LDI
footprint TO252 (D-PAK, 3-Pads, Body 5,8x6,7mm (max), IPC Low Density)
pins: 1 GND, 3 INPUT, 4 Vout

## LM1117MP-3V3
designator U?
800mA Low-Dropout Linear Regulator; PartNumber: LM1117MP-3.3; Manufacturer: National Semiconductor; CompType: LDO IC; PackageTopMarking: XYTT*N05A; PowerWise: N; Published: 4-Dec-2008; DatasheetVersion: Apr-2006; PackageVersion: revB, Apr-2003; PackageReference: MP04A; Publisher: Altium Limited; PackageDescription: Molded SOT-223, 6.50 x 3.56 x 1.6mm Body, 4 Lead, 2.3mm Pitch; RoHS: O; PinCount: 4; DigiKeyPartNumber: LM1117MP-3.3CT-ND; Code_JEDEC: TO-261-AA; Code_IPC: SOT223-4; ComponentLink1Description: LM1117 Datasheet; ComponentLink1URL: http://www.national.com/ds/LM/LM1117.pdf; ComponentLink2Description: LM1117 Web Page; ComponentLink2URL: http://www.national.com/pf/LM/LM1117.html; ComponentLink3Description: MP04A Package Page; ComponentLink3URL: http://www.national.com/packaging/folders/mp04a.html
footprint SOT223
pins: 1 GND (power), 2 OUT (power), 3 IN (power), 4 TAB (power)

## LM1117MP-5V
designator U?
800mA Low-Dropout Linear Regulator; Manufacturer: National Semiconductor; CompType: LDO IC; PackageTopMarking: XYTT*N05A; PowerWise: N; Published: 4-Dec-2008; DatasheetVersion: Apr-2006; PackageVersion: revB, Apr-2003; PackageReference: MP04A; Publisher: Altium Limited; PackageDescription: Molded SOT-223, 6.50 x 3.56 x 1.6mm Body, 4 Lead, 2.3mm Pitch; PartNumber: LM1117MP-5; RoHS: O; PinCount: 4; DigiKeyPartNumber: LM1117MP-3.3CT-ND; Code_JEDEC: TO-261-AA; Code_IPC: SOT223-4; ComponentLink1Description: LM1117 Datasheet; ComponentLink1URL: http://www.national.com/ds/LM/LM1117.pdf; ComponentLink2Description: LM1117 Web Page; ComponentLink2URL: http://www.national.com/pf/LM/LM1117.html; ComponentLink3Description: MP04A Package Page; ComponentLink3URL: http://www.national.com/packaging/folders/mp04a.html
footprint SOT223
pins: 1 GND (power), 2 OUT (power), 3 IN (power), 4 TAB (power)

## LM2596S-3V3
designator U?
SIMPLE SWITCHER Power Converter 150 KHz 3A Step-Down Voltage Regulator; PartNumber: LM2596S-3.3; Manufacturer: National Semiconductor; PackageTopMarking: NSUZXYTT*LM2596S*-3.3 P+; PowerWise: N; FirstPublished: 4-Dec-2008; DatasheetVersion: May-2002; PackageVersion: revD, Apr-2005; PackageReference: TS5B; Publisher: Altium Limited; PackageDescription: TO-263, Molded, .400 x .390 x .180in, 5 Lead, .067in Pitch, Surface Mount; CompType: Switcher; RoHS: O; PinCount: 5; DigiKeyPartNumber: LM2596S-3.3-ND; Code_JEDEC: MO-169-AB; ComponentLink1Description: LM2596 Datasheet; ComponentLink1URL: http://www.national.com/ds/LM/LM2596.pdf; ComponentLink2Description: LM2596 Web Page; ComponentLink2URL: http://www.national.com/pf/LM/LM2596.html; ComponentLink3Description: TS5B Package Page; ComponentLink3URL: http://www.national.com/packaging/folders/ts5b.html
footprint TS5B_N (D2-PAK, 6-Leads, Body 8.6x10.2mm, Pitch 1.7mm, Lead Span 14.1mm, IPC Medium Density)
pins: 1 VIN (power), 2 OUT (power), 3 GND (power), 4 FB (in), 5 ~{ON}/OFF (in), 6 TAB (power)

## LM2671-5.0
designator U?
High Efficiency 500mA Step-Down Voltage  Regulator
footprint SOIC8
pins: 1 Cb, 2 SS, 3 SYNC, 4 FB, 5 ON/~{OFF}, 6 GND, 7 Vin, 8 Vsw

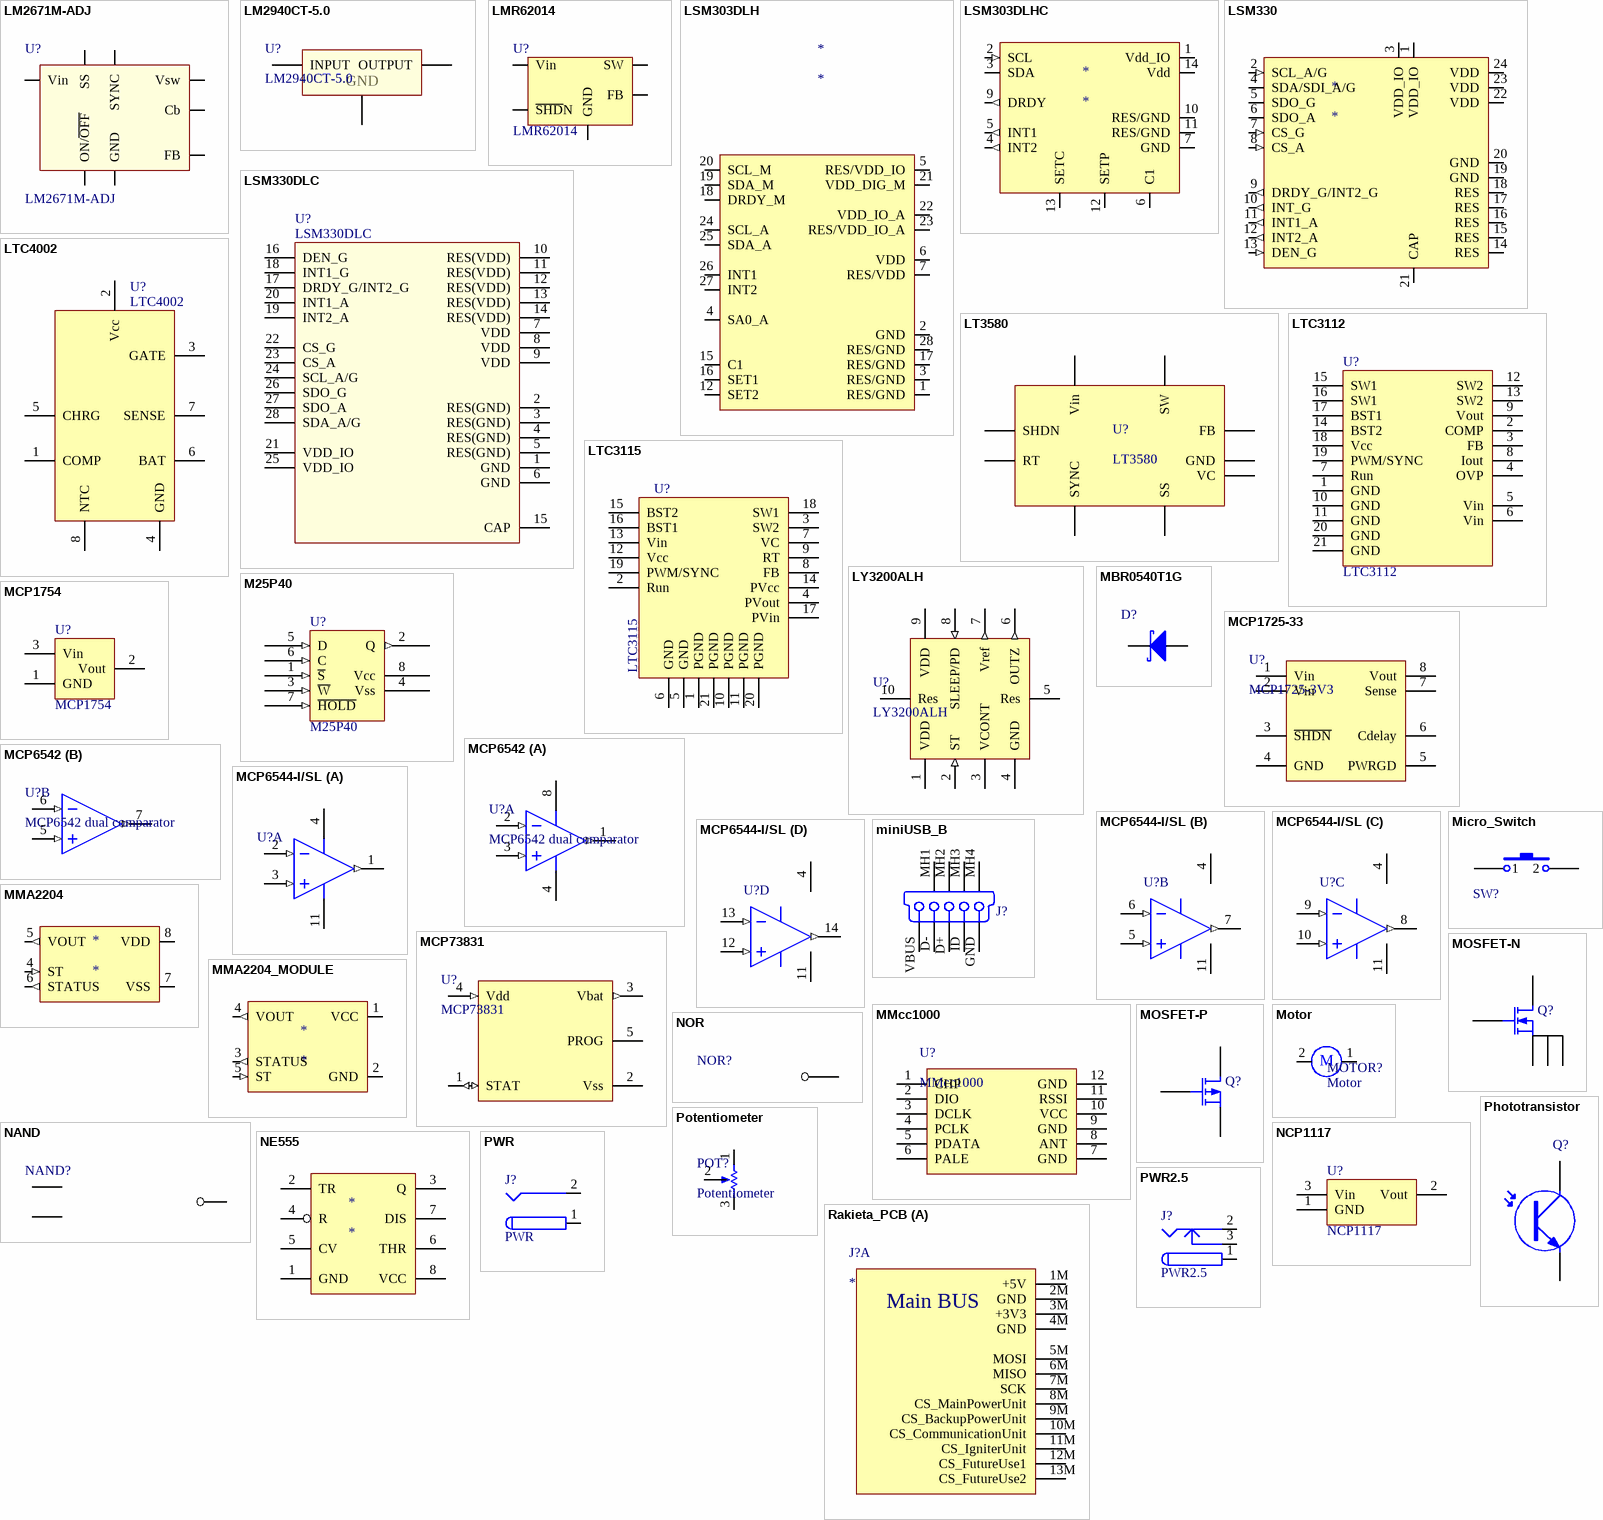
[diagram p3: symbols LM2671M-ADJ to Rakieta_PCB]

## LM2671M-ADJ
designator U?
High Efficiency 500mA Step-Down Voltage  Regulator
footprint SOIC8
pins: 1 Cb, 2 SS, 3 SYNC, 4 FB, 5 ON/~{OFF}, 6 GND, 7 Vin, 8 Vsw

## LM2940CT-5.0
designator U?
1A Low Dropout Regulator
footprint TO-220AB (TO, Thru-Hole, Vertical, Heatsink Mounted; 3 In-Line Leads; Pitch 2.54 mm)
pins: 1 INPUT, 2 GND, 3 OUTPUT

## LMR62014
designator U?
4 SIMPLE SWITCHER® 20Vout, 1.4A Step-Up Voltage Regulator in SOT-23
footprint SOT23-5_N (SOT23, 5-Leads, Body 2.9x1.6mm, Pitch 0.95mm, Lead Span 2.8mm, IPC Medium Density)
pins: 1 SW, 2 GND, 3 FB, 4 ~{SHD}N, 5 Vin

## LSM303DLH
designator *
pins: 1 RES/GND, 2 GND, 3 RES/GND, 4 SA0_A, 5 RES/VDD_IO, 6 VDD, 7 RES/VDD, 12 SET2, 15 C1, 16 SET1, 17 RES/GND, 18 DRDY_M, 19 SDA_M, 20 SCL_M, 21 VDD_DIG_M, 22 VDD_IO_A, 23 RES/VDD_IO_A, 24 SCL_A, 25 SDA_A, 26 INT1, 27 INT2, 28 RES/GND

## LSM303DLHC
designator *
footprint LGA14
pins: 1 Vdd_IO, 2 SCL (in), 3 SDA (oc), 4 INT2 (out), 5 INT1 (out), 6 C1, 7 GND, 9 DRDY (out), 10 RES/GND, 11 RES/GND, 12 SETP, 13 SETC, 14 Vdd

## LSM330
designator *
footprint LGA24L
pins: 1 VDD_IO (power), 2 SCL_A/G (in), 3 VDD_IO (power), 4 SDA/SDI_A/G (io), 5 SDO_G (io), 6 SDO_A (io), 7 CS_G (in), 8 CS_A (in), 9 DRDY_G/INT2_G (out), 10 INT_G (out), 11 INT1_A (out), 12 INT2_A (out), 13 DEN_G (in), 14 RES, 15 RES, 16 RES, 17 RES, 18 RES, 19 GND, 20 GND, 21 CAP, 22 VDD, 23 VDD, 24 VDD

## LSM330DLC
designator U?
footprint LGA28 (LSM330DLC - ST 4x5 mm MEMS footprint)
pins: 1 GND, 2 RES(GND), 3 RES(GND), 4 RES(GND), 5 RES(GND), 6 GND, 7 VDD, 8 VDD, 9 VDD, 10 RES(VDD), 11 RES(VDD), 12 RES(VDD), 13 RES(VDD), 14 RES(VDD), 15 CAP, 16 DEN_G, 17 DRDY_G/INT2_G, 18 INT1_G, 19 INT2_A, 20 INT1_A, 21 VDD_IO, 22 CS_G, 23 CS_A, 24 SCL_A/G, 25 VDD_IO, 26 SDO_G, 27 SDO_A, 28 SDA_A/G

## LT3580
designator U?
Boost/Inverting DC/DC   Converter with 2A Switch,   Soft-Start, and Synchronization
footprint MSOP-MS8_N_Exposed_PAD (TSOP, 8-Leads, Body 3x3mm, Pitch 0.65mm, IPC Medium Density)
pins: 1 FB, 2 VC, 3 Vin, 4 SW, 5 SHDN, 6 RT, 7 SS, 8 SYNC, 9 GND

## LTC3112
designator U?
15V, 2.5A Synchronous  Buck-Boost DC/DC   Converter
footprint TSSOP20-exposed_pad (20-LEAD PLASTIC TSSOP with exposed GND 21 pad)
pins: 1 GND (power), 2 COMP, 3 FB, 4 OVP, 5 Vin, 6 Vin, 7 Run, 8 Iout, 9 Vout, 10 GND (power), 11 GND (power), 12 SW2, 13 SW2, 14 BST2, 15 SW1, 16 SW1, 17 BST1, 18 Vcc, 19 PWM/SYNC, 20 GND (power), 21 GND (power)

## LTC3115
designator U?
40V, 2A Synchronous  Buck-Boost DC/DC  Converter
footprint TSSOP20-exposed_pad (20-LEAD PLASTIC TSSOP with exposed GND 21 pad)
pins: 1 PGND (power), 2 Run, 3 SW2, 4 PVout, 5 GND (power), 6 GND (power), 7 VC, 8 FB, 9 RT, 10 PGND (power), 11 PGND (power), 12 Vcc (power), 13 Vin (power), 14 PVcc, 15 BST2, 16 BST1, 17 PVin, 18 SW1, 19 PWM/SYNC, 20 PGND (power), 21 PGND (power)

## LTC4002
designator U?
Standalone Li-Ion  Switch Mode Battery Charger
footprint SO-8_N
pins: 1 COMP, 2 Vcc, 3 GATE, 4 GND, 5 CHRG, 6 BAT, 7 SENSE, 8 NTC

## LY3200ALH
designator U?
MEMS motion sensor:  high performance ±2000 dps analog yaw-rate gyroscope
footprint LGA10 (LGA-10 (3x5x1mm)  Land Grid Array Package)
pins: 1 VDD (power), 2 ST (in), 3 VCONT (power), 4 GND (power), 5 Res, 6 OUTZ (out), 7 Vref (out), 8 SLEEP/PD (in), 9 VDD (power), 10 Res

## M25P40
designator U?
4Mbit Serial Flash memory, accessed by SPI-compatible bus
footprint SO-8
pins: 1 ~{S} (in), 2 Q (out), 3 ~{W} (in), 4 Vss (power), 5 D (in), 6 C (in), 7 ~{HOLD} (in), 8 Vcc (power)

## MBR0540T1G
designator D?, comment Schottky Power Rectifier  (value not drawn)
footprint SOD-123
pins: A, K

## MCP1725-33
designator U?, comment MCP1725-3V3
500 mA, Low Voltage, Low Quiescent Current LDO Regulator
footprint SOIC8
pins: 1 Vin (power), 2 Vin (power), 3 ~{SHDN} (power), 4 GND (power), 5 PWRGD (power), 6 Cdelay (power), 7 Sense (power), 8 Vout (power)

## MCP1754
designator U?
150 mA, 16V, High-Performance LDO
footprint SOT23A
pins: 1 GND (power), 2 Vout (power), 3 Vin (power)

## MCP6542
designator U?, comment MCP6542 dual comparator
Push-Pull Output Sub-Microamp Comparators
footprint SO-8_N
part A pins: 1 OUTA (out), 2 VINA- (in), 3 VINA+ (in), 4 VSS (power), 8 VDD (power)
part B pins: 5 VINA+ (in), 6 VINA- (in), 7 OUTA (out)

## MCP6544-I/SL
designator U?
Push-Pull Output Sub-Microamp Comparator, 14-Pin SOIC, Industrial Temperature; FirstPublished: 29-Jan-2009; DatasheetVersion: revF, Sep-2007; PackageVersion: revBB, Aug-2009; PackageReference: SOIC-SL14; Publisher: Altium Limited; PackageDescription: 14-Lead Plastic Small Outline (SL) - Narrow, 3.90mm Body [SOIC]; Supplier 1: Digi-Key; Supplier Part Number 1: MCP6544-I/SL-ND; Supplier 2: Newark; Supplier Part Number 2: 92C4258; Code_JEDEC: MS-012-AB; Code_IPC: SOIC127P600-14; ComponentLink1Description: Datasheet; ComponentLink1URL: http://ww1.microchip.com/downloads/en/DeviceDoc/21696f.pdf; ComponentLink2Description: Packaging Specification; ComponentLink2URL: http://www.microchip.com/stellent/groups/techpub_sg/documents/packagingspec/en012702.pdf; ComponentLink3Description: Microchip.com Home; ComponentLink3URL: http://www.microchip.com/
footprint SOIC14 (SOIC, 14-Leads, Body 8.6x3.9mm, Pitch 1.27mm, IPC Medium Density)
pins on every part: 4 VDD (power), 11 VSS (power)
part A pins: 1 OUTA (out), 2 VINA- (in), 3 VINA+ (in)
part B pins: 5 VINB+ (in), 6 VINB- (in), 7 OUTB (out)
part C pins: 8 OUTC (out), 9 VINC- (in), 10 VINC+ (in)
part D pins: 12 VIND+ (in), 13 VIND- (in), 14 OUTD (out)

## MCP73831
designator U?
Miniature Single-Cell, Fully Integrated Li-Ion,  Li-Polymer Charge Management Controllers
footprint SOT23-5_N (SOT23, 5-Leads, Body 2.9x1.6mm, Pitch 0.95mm, Lead Span 2.8mm, IPC Medium Density)
pins: 1 STAT (io), 2 Vss (power), 3 Vbat (out), 4 Vdd (in), 5 PROG

## Micro_Switch
designator SW?  (value not drawn)
Switch; Published: 24-Mar-1999; LatestRevisionDate: 17-Jul-2002; LatestRevisionNote: Re-released for DXP Platform.; PackageReference: SPST-2; Publisher: Altium Limited
footprint Micro_Switch (Micro Switch with 2 leads used)
footprint Tact 34N-F
footprint Micro_Switch_smd
pins: 1, 2

## miniUSB_B
designator J?
USB On-The-Go (OTG) Mini-B Receptacle, Right Angle, SMT, 0.80mm (.031") Pitch, Solder Tabs with Back Cover, Recessed Type; PCB_Layout: Complies with Manufacturer's Recommendation.; Published: 21-Sep-2007; DatasheetVersion: revA, May-2004; PackageVersion: May-2004; PackageReference: 481900001; Publisher: Altium Limited; PackageDescription: USB Mini-B, Sinking Type, SM; 5 Position; Right Angle, Body 11.45 x 11.8 x 3.9 mm (LxWxH); ComponentLink1Description: Manufacturer Link; ComponentLink1URL: http://www.molex.com/; ComponentLink2Description: Datasheet; ComponentLink2URL: http://www.molex.com/cmc_upload/0/000/895/958/SD-48190-001RevA.pdf
signal-integrity model USB Mini-B
footprint miniUSB_B_H (Connector; USB Mini-B, Sinking Type, SM; 5 Position; Right Angle)
pins: D+ "USB Data + [Green]", D- "USB Data - [White]", GND "Ground [Black]", ID "Not Connected (or joined to pin 5 via resistor)", MH1 Tab "Shell", MH2 Tab "Shell", MH3 Tab "Shell", MH4 Tab "Shell", VBUS "USB Vcc [Red]"

## MMA2204
designator *
footprint SO16
pins: 4 ST (in), 5 VOUT (out), 6 STATUS (out), 7 VSS (power), 8 VDD (power)

## MMA2204_MODULE
designator *
footprint MMA2204_MODULE
pins: 1 VCC (power), 2 GND (power), 3 STATUS (out), 4 VOUT (out), 5 ST (in)

## MMcc1000
designator U?
Minimoduł do komunikacji radiowej
footprint MMcc1000
pins: 1 CHP, 2 DIO, 3 DCLK, 4 PCLK, 5 PDATA, 6 PALE, 7 GND, 8 ANT, 9 GND, 10 VCC, 11 RSSI, 12 GND

## MOSFET-N
designator Q?
N-Channel MOSFET; Published: 8-Jun-2000; LatestRevisionDate: 17-Jul-2002; LatestRevisionNote: Re-released for DXP Platform.; PackageVersion: 1995/1996; PackageReference: E3; Publisher: Altium Limited; PackageDescription: TO, Flat Index; 3 In-Line, Axial Leads; Body Dia. 4.6mm; Lead Dia. 0.5 mm (max)
footprint PG_TDSON_8; pin to pad 1>5 2>4 3>1 4>2 5>3
pins: 1 D, 2 G, 3 S, 4 S, 5 S

## MOSFET-P
designator Q?
P-Channel MOSFET; Published: 8-Jun-2000; LatestRevisionDate: 17-Jul-2002; LatestRevisionNote: Re-released for DXP Platform.; PackageVersion: 1995/1996; PackageReference: E3; Publisher: Altium Limited; PackageDescription: TO, Flat Index; 3 In-Line, Axial Leads; Body Dia. 4.6mm; Lead Dia. 0.5 mm (max)
pins: 1 D, 2 G, 3 S

## Motor
designator MOTOR?
Motor, General Kind; Published: 24-Mar-1999; LatestRevisionDate: 17-Jul-2002; LatestRevisionNote: Re-released for DXP Platform.; PackageReference: RB5-10.5; Publisher: Altium Limited
footprint HDR1X2 (Connector; Header; 2 Position)
pins: 1, 2
text: M

## NAND
designator NAND?  (value not drawn)
NAND simple symbol just for drawing
pins: 0, 1, 2

## NCP1117
designator U?
1.0 A Low-Dropout Positive  Fixed and Adjustable  Voltage Regulators; Created by: Piotr Błachnio
footprint D-PAK
pins: 1 GND (power), 2 Vout (power), 3 Vin (power)

## NE555
designator *
footprint DIP8
pins: 1 GND (power), 2 TR, 3 Q (oc), 4 R, 5 CV, 6 THR, 7 DIS, 8 VCC (power)

## NOR
designator NOR?  (value not drawn)
Simple NOR symbol just for drawing
pins: 1

## Phototransistor
designator Q?  (value not drawn)
Phototransistor
footprint LED_THT (Bended version of LED\Phototransistor)
footprint LED_THT_3mm
footprint KP-3216P3C (Made with NPN silicon phototransistor chips)
pins: 1 E, 2 C

## Potentiometer
designator POT?
footprint Pot_3296 (Bochen 3296 Pin2 - Wiper)
footprint POT SMD ACP
footprint RKT6V_SMD (SMD version of STK6V THT element)
footprint RKT6V_THT (RTK6V THT version of THT element)
pins: 1, 2, 3

## PWR
designator J?
PJ-082BH DC POWER JACK; Created by: Piotr Błachnio
footprint PJ-802BH (CD POWER JACK 2.5x5.5)
pins: 1 (power), 2 (power)

## PWR2.5
designator J?
Low Voltage Power Supply Connector; Published: 17-Dec-2003; DatasheetDocument: 09-May-2002; Publisher: Altium Limited; ComponentLink1Description: Manufacturer Link; ComponentLink1URL: http://domino.kycon.com/internet/Products.html
footprint KLD-0202 (DC Power Jack, 2.5mm, KLD Series, PCB Mount)
pins: 1 (power), 2 (power), 3 (power)

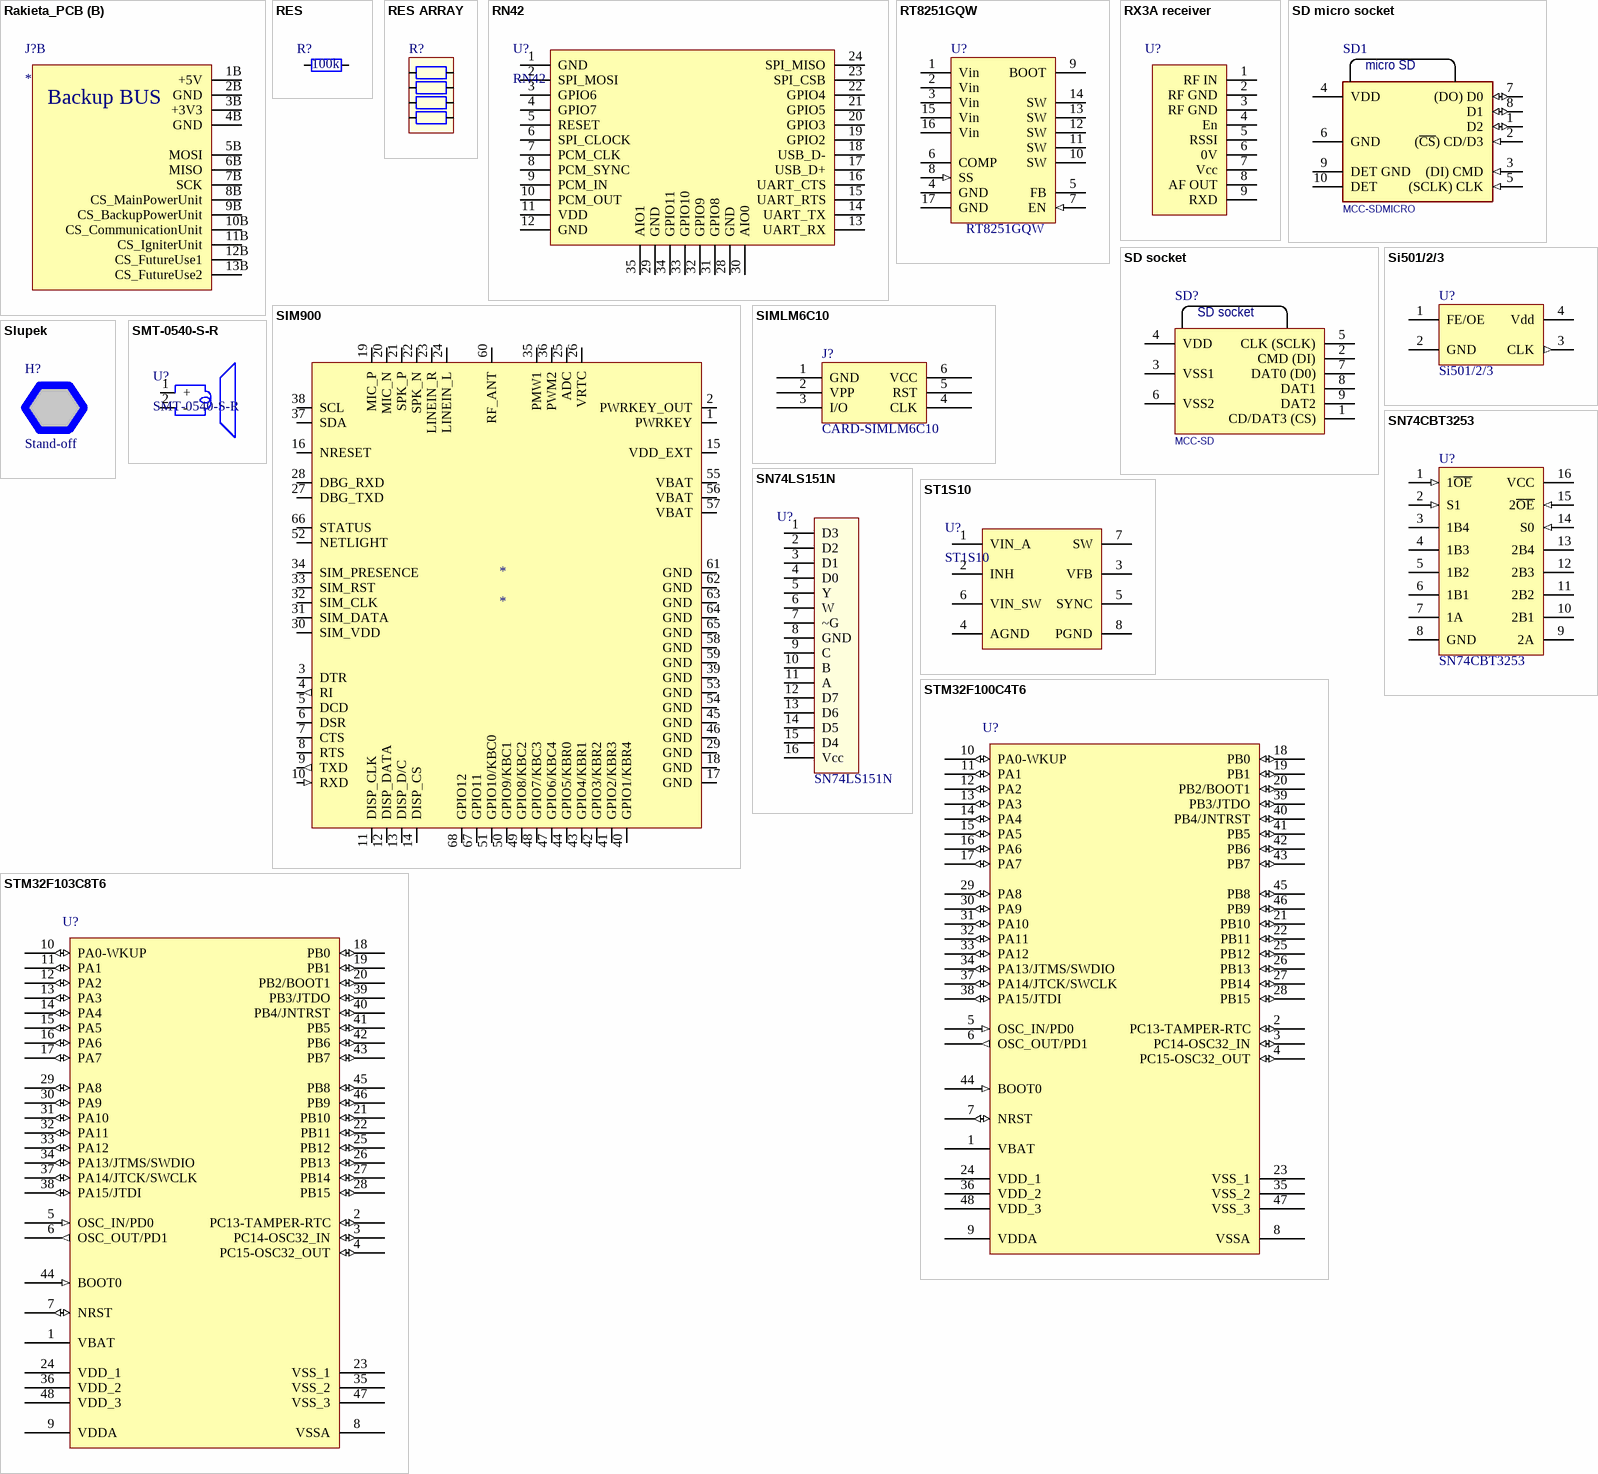
[diagram p4: symbols Rakieta_PCB to STM32F103C8T6]

## Rakieta_PCB
designator J?
Szablon płytki PCB do komputera pokładowego Rakiety
footprint Rakieta_PCB (Szblon płytki do komputera pokładowego rakiety)
part A pins: 1M +5V, 2M GND, 3M +3V3, 4M GND, 5M MOSI, 6M MISO, 7M SCK, 8M CS_MainPowerUnit, 9M CS_BackupPowerUnit, 10M CS_CommunicationUnit, 11M CS_IgniterUnit, 12M CS_FutureUse1, 13M CS_FutureUse2
part B pins: 1B +5V, 2B GND, 3B +3V3, 4B GND, 5B MOSI, 6B MISO, 7B SCK, 8B CS_MainPowerUnit, 9B CS_BackupPowerUnit, 10B CS_CommunicationUnit, 11B CS_IgniterUnit, 12B CS_FutureUse1, 13B CS_FutureUse2
part A text: Main BUS
part B text: Backup BUS

## RES
designator R?, comment 100k
Resistior; Value: 100k
footprint THT_AXIAL (General THT AXIAL element)
footprint R9x2.8 (Resistor, Axial; Body 10.5 x 3.3 mm (LxDia. max), Lead Dia. 0.7 mm (max))
footprint R6.3x2.5 (Resistor, Axial; Body 6.8 x 2.7 mm (LxDia. max), Lead Dia. 0.65 mm (max))
footprint 0805_RES ((2012 metric))
footprint 0603_RES
footprint 1206_RES (3216(metric))
footprint 2010_RES (Chip Resistor; Body 5 x 2.5 mm (LxW typ))
footprint 2512_RES (Chip Resistor; Body 6.4 x 3.2 mm (LxW typ))
footprint 0402_RES (RES 0402 1/16W)
pins: 1, 2
1 alternate drawing of the same symbol

## RES ARRAY
designator R?
Resistior ARRAY; Created by: Piotr Błachnio
footprint RES4x0402 (RESISTOR 0402 X 4 ARRAY)
footprint RES4x0603 (Chip Array, Concave, 8-Leads, Pitch 0,80mm,  Body 3,20x1,60mm,  IPC Medium Density)
pins: 1, 2, 3, 4, 5, 6, 7, 8

## RN42
designator U?
RN42/RN42N Class 2 Bluetooth Module
footprint RN42
pins: 1 GND (power), 2 SPI_MOSI (power), 3 GPIO6 (power), 4 GPIO7 (power), 5 RESET (power), 6 SPI_CLOCK (power), 7 PCM_CLK (power), 8 PCM_SYNC (power), 9 PCM_IN (power), 10 PCM_OUT (power), 11 VDD (power), 12 GND (power), 13 UART_RX (power), 14 UART_TX (power), 15 UART_RTS (power), 16 UART_CTS (power), 17 USB_D+ (power), 18 USB_D- (power), 19 GPIO2 (power), 20 GPIO3 (power), 21 GPIO5 (power), 22 GPIO4 (power), 23 SPI_CSB (power), 24 SPI_MISO (power), 28 GND (power), 29 GND (power), 30 AIO0 (power), 31 GPIO8 (power), 32 GPIO9 (power), 33 GPIO10 (power), 34 GPIO11 (power), 35 AIO1 (power)

## RT8251GQW
designator U?
5A, 24V, 570kHz Step-Down Converter; Created by: Piotr Błachnio
footprint QNF-3x3-16L
pins: 1 Vin (power), 2 Vin (power), 3 Vin (power), 4 GND (power), 5 FB, 6 COMP, 7 EN (in), 8 SS (in), 9 BOOT, 10 SW (power), 11 SW (power), 12 SW (power), 13 SW (power), 14 SW (power), 15 Vin (power), 16 Vin (power), 17 GND (power)

## RX3A receiver
designator U?  (value not drawn)
footprint RX3A
pins: 1 RF IN, 2 RF GND, 3 RF GND, 4 En, 5 RSSI, 6 0V, 7 Vcc, 8 AF OUT, 9 RXD

## SD micro socket
designator SD1, comment MCC-SDMICRO
podstawka microSD, TME (MCC-SDMICRO), Producent Attend: (symbol oryginalny 112A-TAAR-R01, Attend); Unit Price1: 5,00; Unit Price2: 5,00
footprint SD micro 1
pins: 1 D2 (io), 2 (~{CS}) CD/D3 (in), 3 (DI) CMD (in), 4 VDD (power), 5 (SCLK) CLK (in), 6 GND (power), 7 (DO) D0 (io), 8 D1 (io), 9 DET GND, 10 DET
text: micro SD